# Altium schematic symbol library ICs.SchLib: 61 symbols
Pins are listed as number, name and electrical type; pins without a type are passive.

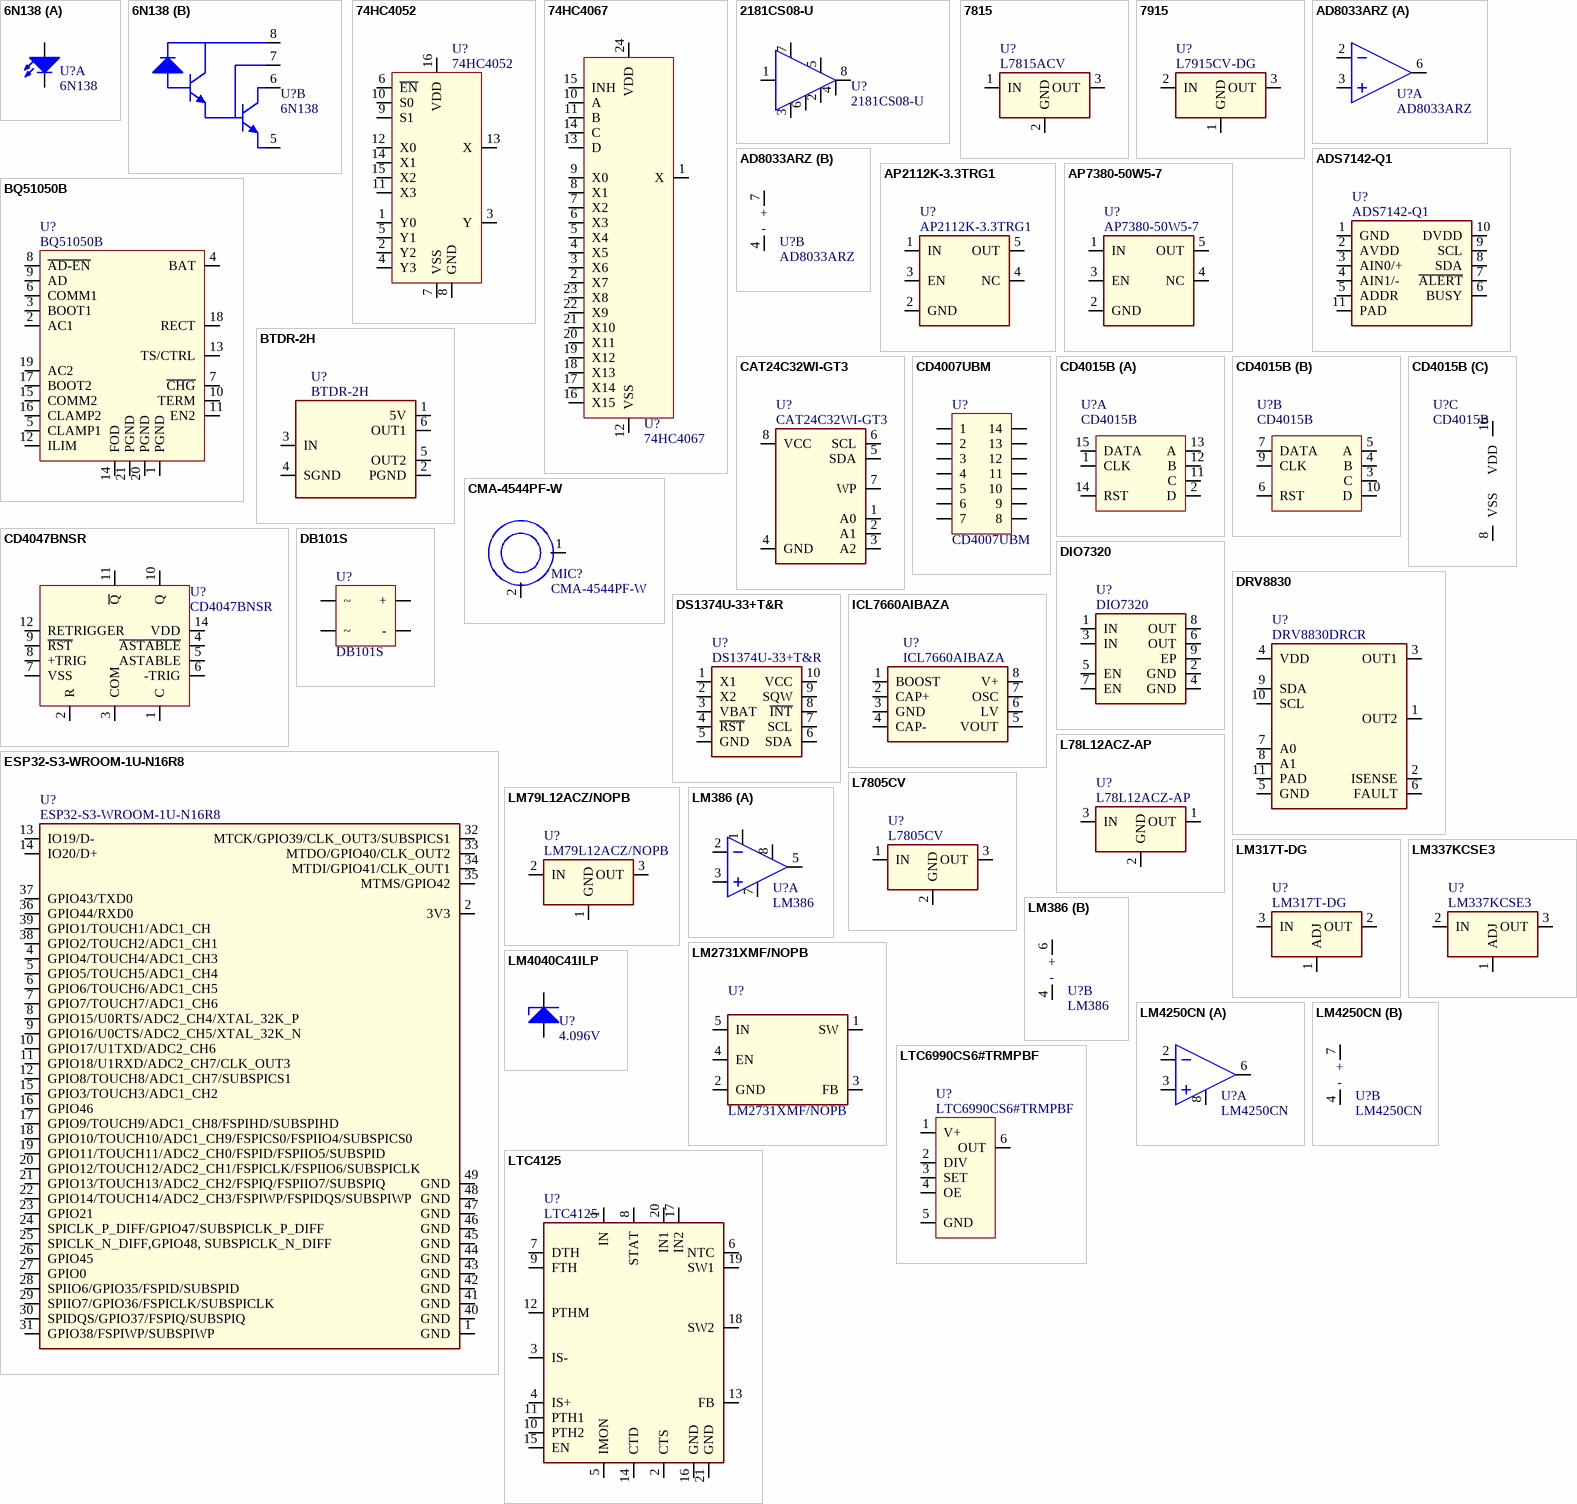
[diagram p0: symbols 6N138 to LTC6990CS6#TRMPBF]

## 6N138
designator U?
Optocoupler; Code: XE_U0006
footprint 8DIP_GW
part A pins: 2, 3
part B pins: 5, 6, 7, 8

## 74HC4052
designator U?
Dual 4-channel analog multiplexer/demultiplexer; Code: XE_U0005
footprint SOIC16 (SOIC, 16-Leads, Body 9,90x3,90mm, Pitch 1,27mm, IPC Medium Density)
pins: 1 Y0, 2 Y2, 3 Y, 4 Y3, 5 Y1, 6 ~{EN}, 7 VSS, 8 GND, 9 S1, 10 S0, 11 X3, 12 X0, 13 X, 14 X1, 15 X2, 16 VDD

## 74HC4067
designator U?
16 Channels MUX/DEMUX; Code: XE_U0005
footprint SOIC127P1030X265-24N (SOIC, 24-Leads, Body 15,40x7,50mm, Pitch 1,27mm, IPC Medium Density)
pins: 1 X, 2 X7, 3 X6, 4 X5, 5 X4, 6 X3, 7 X2, 8 X1, 9 X0, 10 A, 11 B, 12 VSS, 13 D, 14 C, 15 INH, 16 X15, 17 X14, 18 X13, 19 X12, 20 X11, 21 X10, 22 X9, 23 X8, 24 VDD

## 2181CS08-U
designator U?
VCA; Code: XE_U0021
footprint SOIC8
pins: 1, 2, 3, 4, 5, 6, 7, 8

## 7815
designator U?, comment L7815ACV
VREG 15V 1A positive; Code: XE_U0026
footprint TO-220
pins: 1 IN (power), 2 GND (power), 3 OUT (power)

## 7915
designator U?, comment L7915CV-DG
VREG 15V 1A negative; Code: XE_U0027
footprint TO-220
pins: 1 GND (power), 2 IN (power), 3 OUT (power)

## AD8033ARZ
designator U?
OPAMP 80 MHz; Code: XE_U0024
footprint SOIC8
part A pins: 2 IN1-, 3 IN1+, 6 OUT
part B pins: 4 -Vs, 7 +Vs
part B text: +; -

## ADS7142-Q1
designator U?
Automotive 2-channel 12-bit 140-kSPS I2C-compatible ADC with programmable threshold and host wake-up; Part Number: ADS7142QDQCRQ1; Manufacturer: Texas Instruments; Code Arduino: XE_U0008
footprint WSON-10
pins: 1 GND (power), 2 AVDD, 3 AIN0/+, 4 AIN1/-, 5 ADDR (power), 6 BUSY (power), 7 ~{ALERT} (power), 8 SDA (power), 9 SCL (power), 10 DVDD (power), 11 PAD (power)

## AP2112K-3.3TRG1
designator U?
VREG 3V3 600mA; Code: XE_U0008
footprint SOT23-5
pins: 1 IN (power), 2 GND (power), 3 EN, 4 NC (power), 5 OUT (power)

## AP7380-50W5-7
designator U?
VREG 5V 600mA; Code: XE_U0057
footprint SOT23-5
pins: 1 IN (power), 2 GND (power), 3 EN, 4 NC (power), 5 OUT (power)

## BQ51050B
designator U?
High-Efficiency Qi v1.2-Compliant Wireless Power Receiver and Battery Charger; Code: XE_U0035
footprint BQ51050B
pins: 1 PGND, 2 AC1, 3 BOOT1, 4 BAT, 5 CLAMP1, 6 COMM1, 7 ~{CHG}, 8 ~{AD-EN}, 9 AD, 10 TERM, 11 EN2, 12 ILIM, 13 TS/CTRL, 14 FOD, 15 COMM2, 16 CLAMP2, 17 BOOT2, 18 RECT, 19 AC2, 20 PGND, 21 PGND

## BTDR-2H
designator U?
Accutronics reverb module; Code: XE_U0008
footprint BTDR-2H
pins: 1 5V, 2 PGND (power), 3 IN (power), 4 SGND (power), 5 OUT2 (power), 6 OUT1 (power)

## CAT24C32WI-GT3
designator U?
IC EEPROM 32KBIT I2C 1MHZ 8SOIC; Code: XE_U0039
footprint SOIC8
pins: 1 A0 (power), 2 A1 (power), 3 A2 (power), 4 GND (power), 5 SDA (power), 6 SCL (power), 7 WP (power), 8 VCC (power)

## CD4007UBM
designator U?
Triple Inverter; Code: XE_U0022
footprint SOIC14
pins: 1, 2, 3, 4, 5, 6, 7, 8, 9, 10, 11, 12, 13, 14

## CD4015B
designator U?
Dual 4 Stages Shift Register; Code: XE_U0005
footprint SOIC16 (SOIC, 16-Leads, Body 9,90x3,90mm, Pitch 1,27mm, IPC Medium Density)
part A pins: 1 CLK, 2 D, 11 C, 12 B, 13 A, 14 RST, 15 DATA
part B pins: 3 C, 4 B, 5 A, 6 RST, 7 DATA, 9 CLK, 10 D
part C pins: 8 VSS, 16 VDD

## CD4047BNSR
designator U?
Multivibrator monostable; Code: XE_U0020
footprint SOIC14
pins: 1 C, 2 R, 3 COM, 4 ~{ASTABLE}, 5 ASTABLE, 6 -TRIG, 7 VSS, 8 +TRIG, 9 ~{RST}, 10 Q, 11 ~{Q}, 12 RETRIGGER, 14 VDD

## CMA-4544PF-W
designator MIC?
ELECTRET CONDENSER MICROPHONE; Manufacturer: Same Sky; Code Arduino: XE_U0054; Part Number: CMA-4544PF-W
footprint CMA-4544PF-w (CMA-4544PF-W Mic)
pins: 1, 2

## DB101S
designator U?
Diode rectifier 50V 1A; Code: XE_D0003
footprint DB101S (Diodes rectifier 50V 1A)
pins: 1 ~, 2 ~, 3 +, 4 -

## DIO7320
designator U?
5.5-V, 5-A, 28-mΩ On-Resistance Load Switch; Code: XE_U0009
footprint SOIC8-EP
pins: 1 IN (power), 2 GND (power), 3 IN, 4 GND (power), 5 EN (power), 6 OUT (power), 7 EN (power), 8 OUT (power), 9 EP

## DRV8830
designator U?, comment DRV8830DRCR
DRV8830 Low-Voltage Motor Driver With Serial Interface; Code: XE_U0053
footprint VSON10
pins: 1 OUT2, 2 ISENSE, 3 OUT1, 4 VDD, 5 GND, 6 FAULT, 7 A0, 8 A1, 9 SDA, 10 SCL, 11 PAD

## DS1374U-33+T&R
designator U?
I2C RTC; Manufacturer: Analog Devices; Code Arduino: XE_U0025; Part Number: DS1374U-33+T&R
footprint uMAX10
pins: 1 X1 (power), 2 X2 (power), 3 VBAT, 4 ~{RST}, 5 GND, 6 SDA, 7 SCL (power), 8 ~{INT} (power), 9 SQW (power), 10 VCC (power)

## ESP32-S3-WROOM-1U-N16R8
designator U?
2.4 GHz Wi-Fi (802.11b/g/n) and Bluetooth® 5 module; Manufacturer: Espressif; Code Arduino: XE_U0055; Part Number: ESP32-S3-WROOM-1U-N16R8
footprint ESP32-S3-WROOM-1U-N16R8
pins: 1 GND, 2 3V3, 4 GPIO4/TOUCH4/ADC1_CH3, 5 GPIO5/TOUCH5/ADC1_CH4, 6 GPIO6/TOUCH6/ADC1_CH5, 7 GPIO7/TOUCH7/ADC1_CH6, 8 GPIO15/U0RTS/ADC2_CH4/XTAL_32K_P, 9 GPIO16/U0CTS/ADC2_CH5/XTAL_32K_N, 10 GPIO17/U1TXD/ADC2_CH6, 11 GPIO18/U1RXD/ADC2_CH7/CLK_OUT3, 12 GPIO8/TOUCH8/ADC1_CH7/SUBSPICS1, 13 IO19/D-, 14 IO20/D+, 15 GPIO3/TOUCH3/ADC1_CH2, 16 GPIO46, 17 GPIO9/TOUCH9/ADC1_CH8/FSPIHD/SUBSPIHD, 18 GPIO10/TOUCH10/ADC1_CH9/FSPICS0/FSPIIO4/SUBSPICS0, 19 GPIO11/TOUCH11/ADC2_CH0/FSPID/FSPIIO5/SUBSPID, 20 GPIO12/TOUCH12/ADC2_CH1/FSPICLK/FSPIIO6/SUBSPICLK, 21 GPIO13/TOUCH13/ADC2_CH2/FSPIQ/FSPIIO7/SUBSPIQ, 22 GPIO14/TOUCH14/ADC2_CH3/FSPIWP/FSPIDQS/SUBSPIWP, 23 GPIO21, 24 SPICLK_P_DIFF/GPIO47/SUBSPICLK_P_DIFF, 25 SPICLK_N_DIFF,GPIO48, SUBSPICLK_N_DIFF, 26 GPIO45, 27 GPIO0, 28 SPIIO6/GPIO35/FSPID/SUBSPID, 29 SPIIO7/GPIO36/FSPICLK/SUBSPICLK, 30 SPIDQS/GPIO37/FSPIQ/SUBSPIQ, 31 GPIO38/FSPIWP/SUBSPIWP, 32 MTCK/GPIO39/CLK_OUT3/SUBSPICS1, 33 MTDO/GPIO40/CLK_OUT2, 34 MTDI/GPIO41/CLK_OUT1, 35 MTMS/GPIO42, 36 GPIO44/RXD0, 37 GPIO43/TXD0, 38 GPIO2/TOUCH2/ADC1_CH1, 39 GPIO1/TOUCH1/ADC1_CH, 40 GND, 41 GND, 42 GND, 43 GND, 44 GND, 45 GND, 46 GND, 47 GND, 48 GND, 49 GND

## ICL7660AIBAZA
designator U?
Charge pump; Code: XE_U0032
footprint SOIC8
pins: 1 BOOST (power), 2 CAP+ (power), 3 GND, 4 CAP- (power), 5 VOUT (power), 6 LV (power), 7 OSC (power), 8 V+ (power)

## L78L12ACZ-AP
designator U?
12V 0.1A positive; Code: XE_U0026
footprint TO-92
pins: 1 OUT (power), 2 GND (power), 3 IN (power)

## L7805CV
designator U?
5.0V 1.5A; Code: XE_U0037
footprint TO-220
pins: 1 IN (power), 2 GND (power), 3 OUT (power)

## LM79L12ACZ/NOPB
designator U?
12V 0.1A negative; Code: XE_U0027
footprint TO-92
pins: 1 GND (power), 2 IN (power), 3 OUT (power)

## LM317T-DG
designator U?
ADJ 1.2V to 37V 1.5A; Code: XE_U0033
footprint TO-220
pins: 1 ADJ (power), 2 OUT (power), 3 IN (power)

## LM337KCSE3
designator U?
ADJ -1.2V to -37V 1.5A; Code: XE_U0034
footprint TO-220
pins: 1 ADJ (power), 2 IN (power), 3 OUT (power)

## LM386
designator U?
1W Audio amplifier; Code: XE_U0028
footprint SOIC8
part A pins: 1 GAIN1, 2 IN1-, 3 IN1+, 5 OUT, 7 BYPASS, 8 GAIN2
part B pins: 4 GND, 6 VS
part B text: +; -

## LM2731XMF/NOPB
designator U?
DC/DC Boost; Manufacturer: Texas Instruments; Code Arduino: XE_U0011; Part Number: LM2731XMF/NOPB
footprint SOT23-5
pins: 1 SW, 2 GND, 3 FB, 4 EN, 5 IN

## LM4040C41ILP
designator U?, comment 4.096V
LM4040C41ILP; Code: XE_U0006
footprint TO-92
pins: 2, 3

## LM4250CN
designator U?
Programmable OpAmp; Code: *
footprint 8DIP
part A pins: 2 IN1-, 3 IN1+, 6 OUT1, 8 PROG
part B pins: 4 VCC-, 7 VCC+
part B text: +; -

## LTC4125
designator U?
5W AutoResonant Wireless Power Transmitter
footprint LTC4125 (QFN, 20-Leads, Body 4,00x5,00mm, Pitch 0,50mm, Thermal Pad 2,65x3,65mm, IPC Medium Density)
pins: 1 IN, 2 CTS, 3 IS-, 4 IS+, 5 IMON, 6 NTC, 7 DTH, 8 STAT, 9 FTH, 10 PTH2, 11 PTH1, 12 PTHM, 13 FB, 14 CTD, 15 EN, 16 GND, 17 IN2, 18 SW2, 19 SW1, 20 IN1, 21 GND

## LTC6990CS6#TRMPBF
designator U?
Programmable VCO; Code: *
footprint LTC6990CS6#TRMPBF (SOT23, 6-Leads, Body 2,90x2,80mm, Pitch 0,95mm, IPC Medium Density)
pins: 1 V+, 2 DIV, 3 SET, 4 OE, 5 GND, 6 OUT

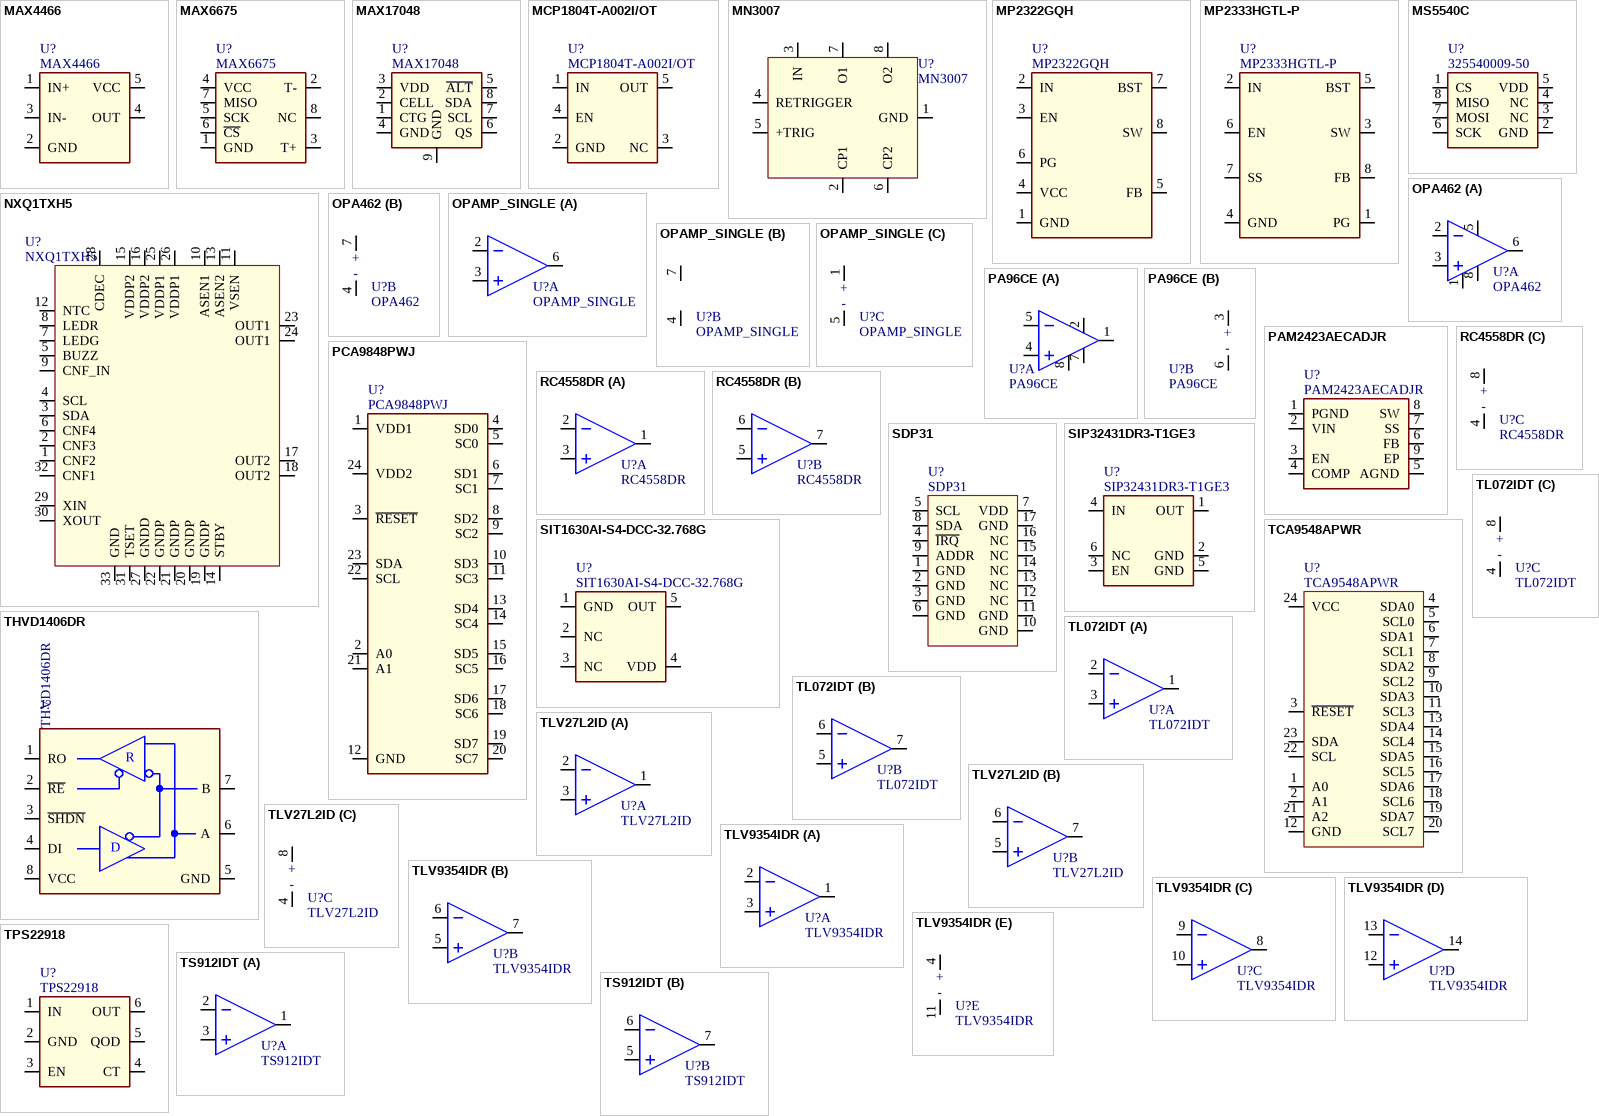
[diagram p1: symbols MAX4466 to TS912IDT]

## MAX4466
designator U?
Microphone Preamplifiers with Complete Shutdown; Manufacturer: Maxim; Code Arduino: XE_U0008; Part Number: MAX4466
footprint MAX4466
pins: 1 IN+ (power), 2 GND (power), 3 IN-, 4 OUT (power), 5 VCC (power)

## MAX6675
designator U?
Cold-Junction-Compensated K-Thermocouple- / to-Digital Converter (0°C to +1024°C); Code: XE_U0049
footprint SOIC8
pins: 1 GND, 2 T-, 3 T+, 4 VCC, 5 SCK, 6 ~{CS}, 7 MISO, 8 NC

## MAX17048
designator U?
3μA 1-Cell/2-Cell Fuel Gauge with ModelGauge; Code: XE_U0040
footprint TDFN-8
pins: 1 CTG (power), 2 CELL (power), 3 VDD (power), 4 GND (power), 5 ~{ALT} (power), 6 QS (power), 7 SCL (power), 8 SDA (power), 9 GND (power)

## MCP1804T-A002I/OT
designator U?
Code: XE_U0050
footprint SOT23-5
pins: 1 IN (power), 2 GND (power), 3 NC, 4 EN (power), 5 OUT (power)

## MN3007
designator U?
1024 Stages BBD; Code: XE_U0020
footprint 8DIP
pins: 1 GND, 2 CP1, 3 IN, 4 RETRIGGER, 5 +TRIG, 6 CP2, 7 O1, 8 O2

## MP2322GQH
designator U?
DC/DC Buck; Code: XE_U0010
footprint MP2322GQH
pins: 1 GND, 2 IN, 3 EN, 4 VCC, 5 FB, 6 PG, 7 BST, 8 SW

## MP2333HGTL-P
designator U?
DC/DC Buck; Code: XE_U0011
footprint MP2322GQH
pins: 1 PG, 2 IN, 3 SW, 4 GND, 5 BST, 6 EN, 7 SS, 8 FB

## MS5540C
designator U?, comment 325540009-50
1BAR WHITE GEL T&R MS5540-CM; Code: XE_U0045
footprint MS5540C
pins: 1 CS (power), 2 GND (power), 3 NC (power), 4 NC (power), 5 VDD (power), 6 SCK (power), 7 MOSI (power), 8 MISO

## NXQ1TXH5
designator U?
Wireless Charger; Code: XE_U0005
footprint QFN-32
pins: 1 CNF2, 2 CNF3, 3 SDA, 4 SCL, 5 BUZZ, 6 CNF4, 7 LEDG, 8 LEDR, 9 CNF_IN, 10 ASEN1, 11 VSEN, 12 NTC, 13 ASEN2, 14 STBY, 15 VDDP2, 16 VDDP2, 17 OUT2, 18 OUT2, 19 GNDP, 20 GNDP, 21 GNDP, 22 GNDP, 23 OUT1, 24 OUT1, 25 VDDP1, 26 VDDP1, 27 GNDD, 28 CDEC, 29 XIN, 30 XOUT, 31 TSET, 32 CNF1, 33 GND

## OPA462
designator U?
High-Voltage (180-V), High-Current 30-mA
footprint SOIC8-EP
part A pins: 1 COM, 2 IN1-, 3 IN1+, 5 STAT, 6 OUT1, 8 E/D
part B pins: 4 V-, 7 V+
part B text: +; -

## OPAMP_SINGLE
designator U?
footprint SOIC8
part A pins: 2 IN1-, 3 IN1+, 6 OUT1
part B pins: 4 VCC-, 7 VCC+
part C pins: 1 OFF1, 5 OFF2
part C text: +; -

## PA96CE
designator U?
Linear OpAmp, 300V, 15A; Code: XE_U0029
footprint PA96CE (APEX TO-3)
part A pins: 1 OUT, 2 CL, 4 IN+, 5 IN-, 7 CC2, 8 CC1
part B pins: 3 +VS, 6 -VS
part B text: +; -

## PAM2423AECADJR
designator U?
5.5A PWM STEP-UP DC/DC CNVTR; Code: XE_U0046
footprint SOIC8-EP
pins: 1 PGND (power), 2 VIN, 3 EN (power), 4 COMP (power), 5 AGND (power), 6 FB (power), 7 SS (power), 8 SW (power), 9 EP

## PCA9848PWJ
designator U?
CI di commutazione - vari 8Ch ultralow voltage; Code: XE_U0030
footprint TSSOP24 (SOIC34)
pins: 1 VDD1, 2 A0, 3 ~{RESET}, 4 SD0, 5 SC0, 6 SD1, 7 SC1, 8 SD2, 9 SC2, 10 SD3, 11 SC3, 12 GND, 13 SD4, 14 SC4, 15 SD5, 16 SC5, 17 SD6, 18 SC6, 19 SD7, 20 SC7, 21 A1, 22 SCL, 23 SDA, 24 VDD2

## RC4558DR
designator U?
BJT 2 Channels; Manufacturer: Texas Instruments; Code Arduino: XE_U0015; Part Number: RC4558DR
footprint SOIC8
part A pins: 1 OUT1, 2 IN1-, 3 IN1+
part B pins: 5 IN2+, 6 IN2-, 7 OUT2
part C pins: 4 VCC-, 8 VCC+
part C text: +; -

## SDP31
designator U?
Differential Pressure Sensor; Code: XE_U0047
footprint SDP31 (Sensirion Differential Pressure IC)
pins: 1 GND, 2 GND, 3 GND, 4 ~{IRQ}, 5 SCL, 6 GND, 7 VDD, 8 SDA, 9 ADDR, 10 GND, 11 GND, 12 NC, 13 NC, 14 NC, 15 NC, 16 NC, 17 GND

## SIP32431DR3-T1GE3
designator U?
Load Switch with Reverse Blocking 1.2A 1.2-5.5V; Manufacturer: Vishay; Code Arduino: XE_U0007; Part Number: SIP32431DR3-T1GE3
footprint SC70-6
pins: 1 OUT, 2 GND, 3 EN, 4 IN, 5 GND, 6 NC

## SIT1630AI-S4-DCC-32.768G
designator U?
Clock -40 to 85C, SOT23, 100ppm, 0.032768MHz,; Code: XE_U0044
footprint SOT23-5
pins: 1 GND (power), 2 NC, 3 NC (power), 4 VDD (power), 5 OUT (power)

## TCA9548APWR
designator U?
8 Channel I2C Switch; Code: XE_U0045
footprint TSSOP24
pins: 1 A0, 2 A1, 3 ~{RESET}, 4 SDA0, 5 SCL0, 6 SDA1, 7 SCL1, 8 SDA2, 9 SCL2, 10 SDA3, 11 SCL3, 12 GND, 13 SDA4, 14 SCL4, 15 SDA5, 16 SCL5, 17 SDA6, 18 SCL6, 19 SDA7, 20 SCL7, 21 A2, 22 SCL, 23 SDA, 24 VCC

## THVD1406DR
designator J?
RS-422/RS-485 3.3-V to 5-V 500-Kbp s half-duplex RS-485; Manufacturer: Texas Instruments; Code Arduino: XE_U0056; Part Number: THVD1406DR
footprint SOIC8
pins: 1 RO, 2 ~{RE}, 3 ~{SHDN}, 4 DI, 5 GND, 6 A, 7 B, 8 VCC
text: R; D

## TL072IDT
designator U?
Manufacturer: STM; Code Arduino: XE_U0002; Part Number: TL072IDT
footprint SOIC8
part A pins: 1 OUT1, 2 IN1-, 3 IN1+
part B pins: 5 IN2+, 6 IN2-, 7 OUT2
part C pins: 4 VCC-, 8 VCC+
part C text: +; -

## TLV27L2ID
designator U?
CMOS 2 Channels; Manufacturer: Texas Instruments; Code Arduino: XE_U0048; Part Number: TLV27L2ID
footprint SOIC8
part A pins: 1 OUT1, 2 IN1-, 3 IN1+
part B pins: 5 IN2+, 6 IN2-, 7 OUT2
part C pins: 4 VCC-, 8 VCC+
part C text: +; -

## TLV9354IDR
designator U?
CMOS 4 Channels; Manufacturer: Texas Isntruments; Code Arduino: XE_U0041; Part Number: TLV9354IDR
footprint SOIC14
part A pins: 1 OUT1, 2 IN1-, 3 IN1+
part B pins: 5 IN2+, 6 IN2-, 7 OUT2
part C pins: 8 OUT3, 9 IN3-, 10 IN3+
part D pins: 12 IN4+, 13 IN4-, 14 OUT4
part E pins: 4 VCC+, 11 VCC-
part E text: +; -

## TPS22918
designator U?
5.5-V, 2-A, 52-mΩ On-Resistance Load Switch; Code: XE_U0031
footprint SOT23-6
pins: 1 IN (power), 2 GND (power), 3 EN, 4 CT, 5 QOD (power), 6 OUT (power)

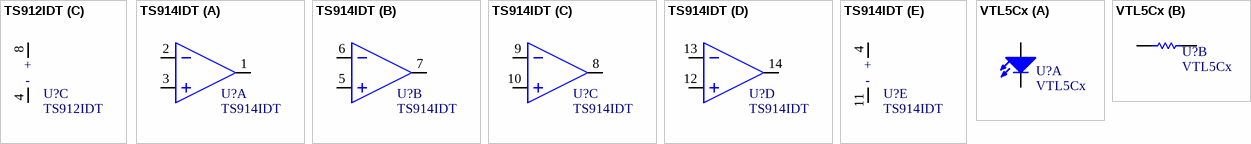
[diagram p2: symbols TS912IDT to VTL5Cx]

## TS912IDT
designator U?
Manufacturer: STM; Code Arduino: XE_U0017; Part Number: TS912IDT
footprint SOIC8
part A pins: 1 OUT1, 2 IN1-, 3 IN1+
part B pins: 5 IN2+, 6 IN2-, 7 OUT2
part C pins: 4 VCC-, 8 VCC+
part C text: +; -

## TS914IDT
designator U?
Manufacturer: STM; Code Arduino: XE_U0016; Part Number: TS914IDT
footprint SOIC14
part A pins: 1 OUT1, 2 IN1-, 3 IN1+
part B pins: 5 IN2+, 6 IN2-, 7 OUT2
part C pins: 8 OUT3, 9 IN3-, 10 IN3+
part D pins: 12 IN4+, 13 IN4-, 14 OUT4
part E pins: 4 VCC+, 11 VCC-
part E text: +; -

## VTL5Cx
designator U?
Vactrol; Code: XE_U0006
footprint VTL5cx (VTL5Cx)
part A pins: A, K
part B pins: 1, 2